# Altium schematic symbol library rf_new.SchLib: 11 symbols
Pins are listed as number, name and electrical type; pins without a type are passive.

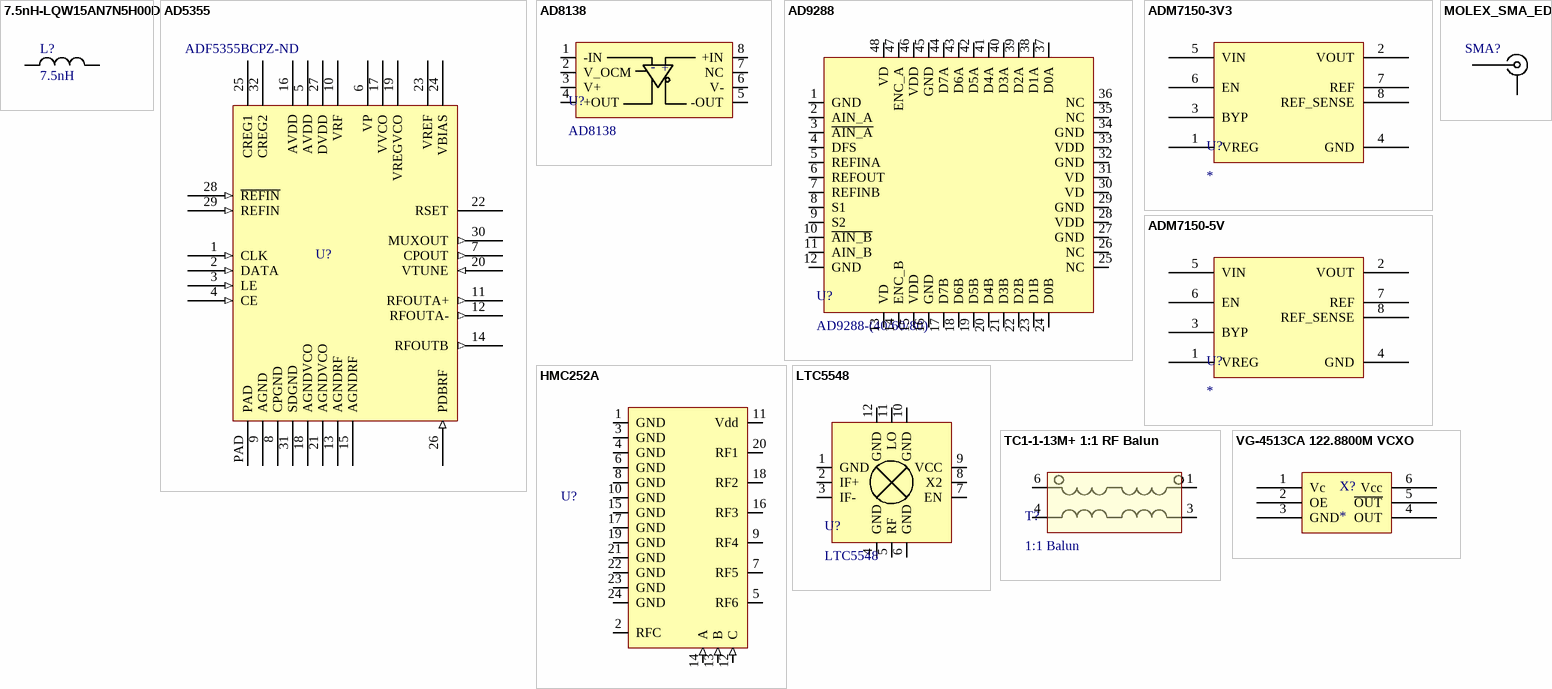
[diagram p0: symbols 7.5nH-LQW15AN7N5H00D to VG-4513CA 122.8800M VCXO]

## 7.5nH-LQW15AN7N5H00D
designator L?, comment 7.5nH
Supplier 1: Digi-Key; Supplier Part Number 1: 490-6847-1-ND
footprint 0402_INDUCTOR (Chip Inductor, 2-Leads, Body 1.00x0.50mm, IPC Medium Density)
pins: 1, 2

## AD5355
designator U?  Supplier Part Number 1: ADF5355BCPZ-ND  (hidden comment: AD5355)
Supplier 1: Digi-Key
footprint AD5355_LFCSP32 (QFN, 32-Leads, Body 5.00x5.00mm, Pitch 0.50mm, Thermal Pad 3.65x3.65mm, IPC Low Density)
pins: 1 CLK (in), 2 DATA (in), 3 LE (in), 4 CE (in), 5 AVDD (power), 6 VP (power), 7 CPOUT (out), 8 CPGND (power), 9 AGND (power), 10 VRF (power), 11 RFOUTA+ (out), 12 RFOUTA- (out), 13 AGNDRF (power), 14 RFOUTB (out), 15 AGNDRF (power), 16 AVDD (power), 17 VVCO (power), 18 AGNDVCO (power), 19 VREGVCO (power), 20 VTUNE (in), 21 AGNDVCO (power), 22 RSET, 23 VREF (power), 24 VBIAS (power), 25 CREG1, 26 PDBRF (in), 27 DVDD (power), 28 ~{REFIN} (in), 29 REFIN (in), 30 MUXOUT (out), 31 SDGND (power), 32 CREG2 (power), PAD (power)

## AD8138
designator U?
Supplier 1: Digi-Key; Supplier Part Number 1: AD8138ARZ-R7CT-ND
footprint AD8138-SOIC8 (SOIC, 8-Leads, Body 4.90x3.90mm, Pitch 1.27mm, IPC Low Density)
pins: 1 -IN, 2 V_OCM, 3 V+, 4 +OUT, 5 -OUT, 6 V-, 7 NC, 8 +IN
text: -; +

## AD9288
designator U?, comment AD9288-(40/60/80)
Supplier 1: Digi-Key; Supplier Part Number 1: AD9288BSTZ-40-ND
footprint ad9288-48QFP (TSQFP, 48-Leads, Body 7.00x7.00mm, Pitch 0.50mm, IPC Low Density)
pins: 1 GND, 2 AIN_A, 3 ~{AIN_A}, 4 DFS, 5 REFINA, 6 REFOUT, 7 REFINB, 8 S1, 9 S2, 10 ~{AIN_B}, 11 AIN_B, 12 GND, 13 VD, 14 ENC_B, 15 VDD, 16 GND, 17 D7B, 18 D6B, 19 D5B, 20 D4B, 21 D3B, 22 D2B, 23 D1B, 24 D0B, 25 NC, 26 NC, 27 GND, 28 VDD, 29 GND, 30 VD, 31 VD, 32 GND, 33 VDD, 34 GND, 35 NC, 36 NC, 37 D0A, 38 D1A, 39 D2A, 40 D3A, 41 D4A, 42 D5A, 43 D6A, 44 D7A, 45 GND, 46 VDD, 47 ENC_A, 48 VD

## ADM7150-3V3
designator U?
Supplier 1: Digi-Key; Supplier Part Number 1: ADM7150ARDZ-3.3-ND
footprint ADM7150_SOIC8EP (SOIC, 8-Leads, Body 4.90x3.90mm, Pitch 1.27mm, Thermal Pad 3.10x2.41mm, IPC Low Density)
pins: 1 VREG, 2 VOUT, 3 BYP, 4 GND, 5 VIN, 6 EN, 7 REF, 8 REF_SENSE

## ADM7150-5V
designator U?
Supplier 1: Digi-Key; Supplier Part Number 1: ADM7150ARDZ-5.0-ND
footprint ADM7150_SOIC8EP (SOIC, 8-Leads, Body 4.90x3.90mm, Pitch 1.27mm, Thermal Pad 3.10x2.41mm, IPC Low Density)
pins: 1 VREG, 2 VOUT, 3 BYP, 4 GND, 5 VIN, 6 EN, 7 REF, 8 REF_SENSE

## HMC252A
designator U?  (value not drawn)
Supplier 1: Digi-Key; Supplier Part Number 1: 1127-3181-ND
footprint HMC252A-QSOP24 (SOP, 24-Leads, Body 8.65x3.90mm, Pitch 0.64mm, IPC Low Density)
pins: 1 GND, 2 RFC, 3 GND, 4 GND, 5 RF6, 6 GND, 7 RF5, 8 GND, 9 RF4, 10 GND, 11 Vdd, 12 C (in), 13 B (in), 14 A (in), 15 GND, 16 RF3, 17 GND, 18 RF2, 19 GND, 20 RF1, 21 GND, 22 GND, 23 GND, 24 GND

## LTC5548
designator U?
Supplier 1: Digi-Key; Supplier Part Number 1: LTC5548IUDB#TRMPBFCT-ND
footprint LTC5548_QFN3mmx2mm (QFN, 12-Leads, Body 3.00x2.00mm, Pitch 0.50mm, Thermal Pad 0.75x0.50mm, IPC Medium Density)
pins: 1 GND, 2 IF+, 3 IF-, 4 GND, 5 RF, 6 GND, 7 EN, 8 X2, 9 VCC, 10 GND, 11 LO, 12 GND

## MOLEX_SMA_EDGE
designator SMA?  (value not drawn)
Supplier 1: Digi-Key; Supplier Part Number 1: WM5534-ND
footprint MOLEX_SMA_EDGE
pins: 1, 2

## TC1-1-13M+ 1:1 RF Balun
designator T?, comment 1:1 Balun
footprint TC1-1-13M+_FOOTPRINT
pins: 1 GND, 3 GND, 4 GND, 6 GND

## VG-4513CA 122.8800M VCXO
designator X?
Supplier 1: Digi-Key; Supplier Part Number 1: SER3906CT-ND
footprint VG-4513CA-VCXO
pins: 1 Vc, 2 OE, 3 GND, 4 OUT, 5 ~{OUT}, 6 Vcc